# EAGLE library part TDA1545 (library Philips-semiconductors2)
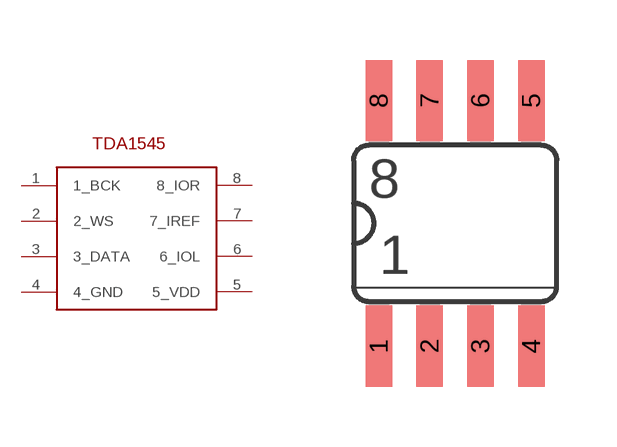
[diagram p15: symbol with the pads of SOT505-1; footprint SOT505-1]

Designator prefix -

## TDA1545SO8  [SOT505-1]
1  1_BCK
2  2_WS
3  3_DATA
4  4_GND
5  5_VDD
6  6_IOL
7  7_IREF
8  8_IOR

## Footprint SOT505-1 (pad centres in mm)
smd 0.66 x 2.032: 1 -1.905,-3.073; 2 -0.635,-3.073; 3 0.635,-3.073; 4 1.905,-3.073; 5 1.905,3.073; 6 0.635,3.073; 7 -0.635,3.073; 8 -1.905,3.073